# EAGLE library part ENCODER_RG_CC_SW (library halcyonmod_Switches)
Illuminated Rotary Encoder, Red/Green LED, Common Cathode, with Switch Source : EC12PLGRSDVF.pdf Supplier : https://www.sparkfun.com/products/10596
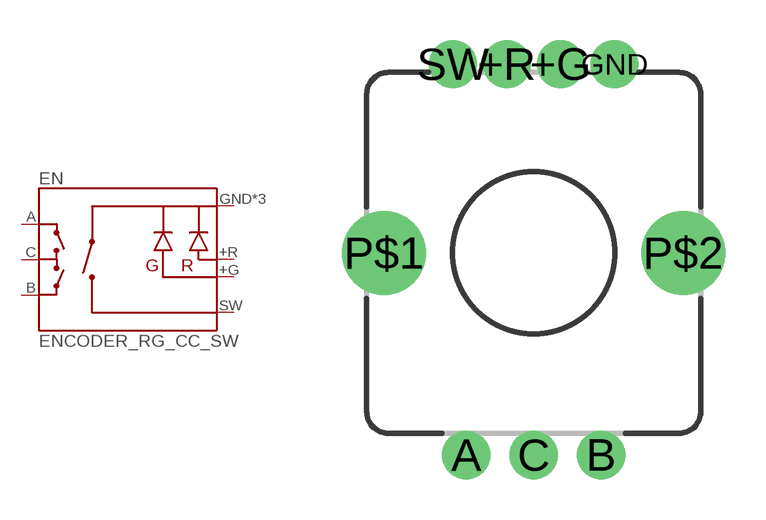
[diagram p0: symbol with the pads of ENCODER_RB_CC_SW; footprint ENCODER_RB_CC_SW]

Designator prefix EN

## ENCODER_RG_CC_SW  [ENCODER_RB_CC_SW]
+G  +G  pas
+R  +R  pas
A  A
B  B
C  C
GND  -  pas
P$1  -  pas
P$2  -  pas
SW  SW  pas

## Footprint ENCODER_RB_CC_SW (pad centres in mm)
Illuminated Rotary Encoder, Red/Green LED, Common Cathode, with Switch
drill 1.1 pad 1.778: +G 1,7; +R -1,7; GND 3,7; SW -3,7
drill 1.1 pad 1.8: A -2.5,-7.5; B 2.5,-7.5; C 0,-7.5
drill 2.1: P$1 -5.55,0; P$2 5.55,0